# EAGLE library part MICROSD (library custom-connectors)
SD Card
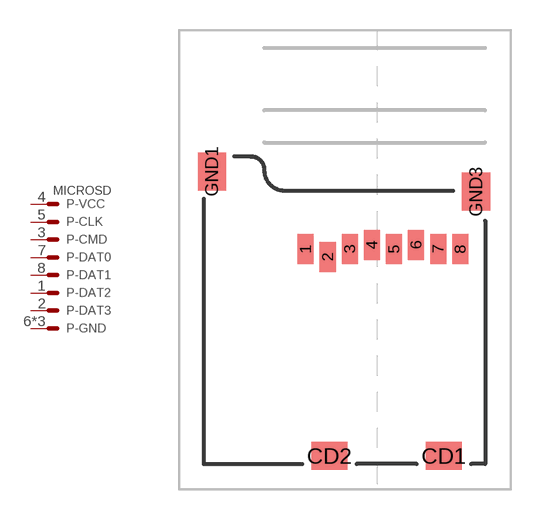
[diagram p0: symbol with the pads of AMPHENOL_101-00660-68; footprint AMPHENOL_101-00660-68]

Designator prefix P; gates -VCC=MV -CLK=M -CMD=M -DAT0=M -DAT1=M -DAT2=M -DAT3=M -GND=M

## MICROSD_AMPHENOL_101 (DIGI-KEY: 101-00660-68-6-1-ND; MOUSER: 523-101-00660-68-6)  [AMPHENOL_101-00660-68]
1  -DAT2:S  pas
2  -DAT3:S  pas
3  -CMD:S  pas
4  -VCC:S  pas
5  -CLK:S  pas
6  -GND:S  pas
7  -DAT0:S  pas
8  -DAT1:S  pas
GND1  -GND:S  pas
GND3  -GND:S  pas

## Footprint AMPHENOL_101-00660-68 (pad centres in mm)
smd 0.8 x 1.5: 1 -8.94,10.7; 2 -7.84,10.3; 3 -6.74,10.7; 4 -5.64,10.9; 5 -4.54,10.7; 6 -3.44,10.9; 7 -2.34,10.7; 8 -1.24,10.7
smd 1.8 x 1.4: CD1 -2.05,0.4; CD2 -7.75,0.4
smd 1.4 x 1.9: GND1 -13.6,14.55; GND3 -0.45,13.55